# Altium schematic symbol library Fiber.SchLib: 2 symbols
Pins are listed as number, name and electrical type; pins without a type are passive.

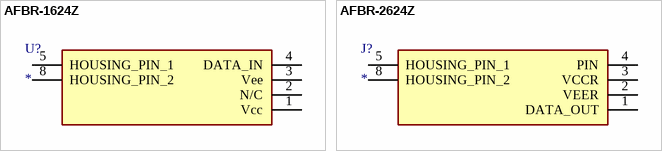
[diagram p0: symbols AFBR-1624Z to AFBR-2624Z]

## AFBR-1624Z
designator U?
Connector_Tx; Manufacturer_Name: Avago Technologies; Manufacturer_Part_Number: AFBR-1624Z; Description: Fiber Optic Transmitters; Datasheet Link: https://docs.broadcom.com/docs/AV02-4369EN; Arrow Part Number: AFBR-1624Z; Mouser Part Number: 630-AFBR-1624Z; Mouser Price/Stock: https://www.mouser.co.uk/ProductDetail/Broadcom-Avago/AFBR-1624Z?qs=60YbxKv0rtAaXQ7gKlmQcw%3D%3D
footprint AFBR2624Z
pins: 1 Vcc, 2 N/C, 3 Vee, 4 DATA_IN, 5 HOUSING_PIN_1, 8 HOUSING_PIN_2

## AFBR-2624Z
designator J?
Connector_Rx; Manufacturer_Name: Avago Technologies; Manufacturer_Part_Number: AFBR-2624Z; Description: Fiber Optic Transmitters; Datasheet Link: https://docs.broadcom.com/docs/AV02-4369EN; Arrow Part Number: AFBR-2624Z; Mouser Part Number: 630-AFBR-2624Z; Mouser Price/Stock: https://www.mouser.co.uk/ProductDetail/Broadcom-Avago/AFBR-2624Z?qs=60YbxKv0rtDJIJtl89oIpg%3D%3D
footprint AFBR2624Z
pins: 1 DATA_OUT, 2 VEER, 3 VCCR, 4 PIN, 5 HOUSING_PIN_1, 8 HOUSING_PIN_2